# Altium schematic symbol library GENERIC_C.Schlib: 1 symbol
Pins are listed as number, name and electrical type; pins without a type are passive.

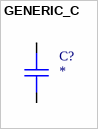
[diagram p0: symbol GENERIC_C]

## GENERIC_C
designator C?
pins: 1, 2